# EAGLE library part X__STECKERLEISTE_DOPPEL_40 (library ++Bedrahtet)
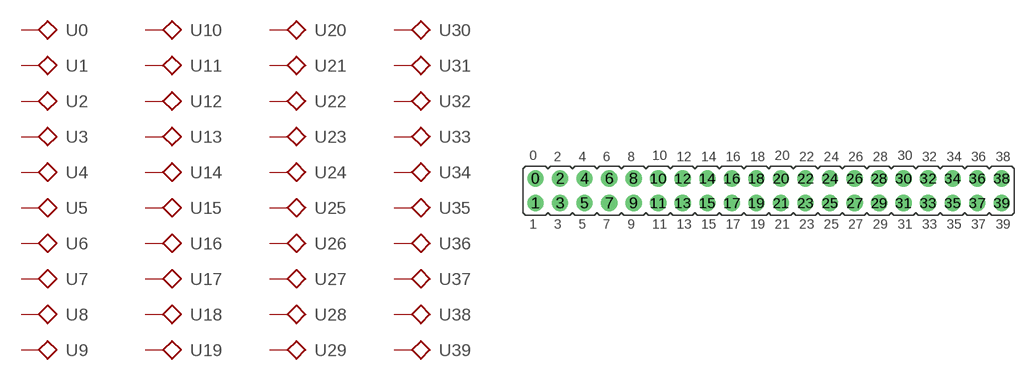
[diagram p52: symbol with the pads of STECKERLEISTE_DOPPEL_40; footprint STECKERLEISTE_DOPPEL_40]

Designator prefix -; gates 0=PIN 1=PIN 2=PIN 3=PIN 4=PIN 5=PIN 6=PIN 7=PIN 8=PIN 9=PIN 10=PIN 11=PIN 12=PIN 13=PIN 14=PIN 15=PIN 16=PIN 17=PIN 18=PIN 19=PIN 20=PIN 21=PIN 22=PIN 23=PIN 24=PIN 25=PIN 26=PIN 27=PIN 28=PIN 29=PIN 30=PIN 31=PIN 32=PIN 33=PIN 34=PIN 35=PIN 36=PIN 37=PIN 38=PIN 39=PIN

## X__STECKERLEISTE_DOPPEL_40  [STECKERLEISTE_DOPPEL_40]
0  0:1
1  1:1
2  2:1
3  3:1
4  4:1
5  5:1
6  6:1
7  7:1
8  8:1
9  9:1
10  10:1
11  11:1
12  12:1
13  13:1
14  14:1
15  15:1
16  16:1
17  17:1
18  18:1
19  19:1
20  20:1
21  21:1
22  22:1
23  23:1
24  24:1
25  25:1
26  26:1
27  27:1
28  28:1
29  29:1
30  30:1
31  31:1
32  32:1
33  33:1
34  34:1
35  35:1
36  36:1
37  37:1
38  38:1
39  39:1

## Footprint STECKERLEISTE_DOPPEL_40 (pad centres in mm)
drill 1 pad 1.676: 0 -6.35,1.27; 1 -6.35,-1.27; 2 -3.81,1.27; 3 -3.81,-1.27; 4 -1.27,1.27; 5 -1.27,-1.27; 6 1.27,1.27; 7 1.27,-1.27; 8 3.81,1.27; 9 3.81,-1.27; 10 6.35,1.27; 11 6.35,-1.27; 12 8.89,1.27; 13 8.89,-1.27; 14 11.43,1.27; 15 11.43,-1.27; 16 13.97,1.27; 17 13.97,-1.27; 18 16.51,1.27; 19 16.51,-1.27; 20 19.05,1.27; 21 19.05,-1.27; 22 21.59,1.27; 23 21.59,-1.27; 24 24.13,1.27; 25 24.13,-1.27; 26 26.67,1.27; 27 26.67,-1.27; 28 29.21,1.27; 29 29.21,-1.27; 30 31.75,1.27; 31 31.75,-1.27; 32 34.29,1.27; 33 34.29,-1.27; 34 36.83,1.27; 35 36.83,-1.27; 36 39.37,1.27; 37 39.37,-1.27; 38 41.91,1.27; 39 41.91,-1.27